# Altium footprint library CAPC450X320X135L60N.PcbLib: 1 footprints
Each footprint in its own frame and in the unit in brackets; x right, y up, seen from the top. Pads: shape width x height; smd on the part's side, far side on the other; paste and mask are expansions set on the pad; w line width, h text height; cw(c..) or ccw(c..) is an arc to the next point about the centre after c.
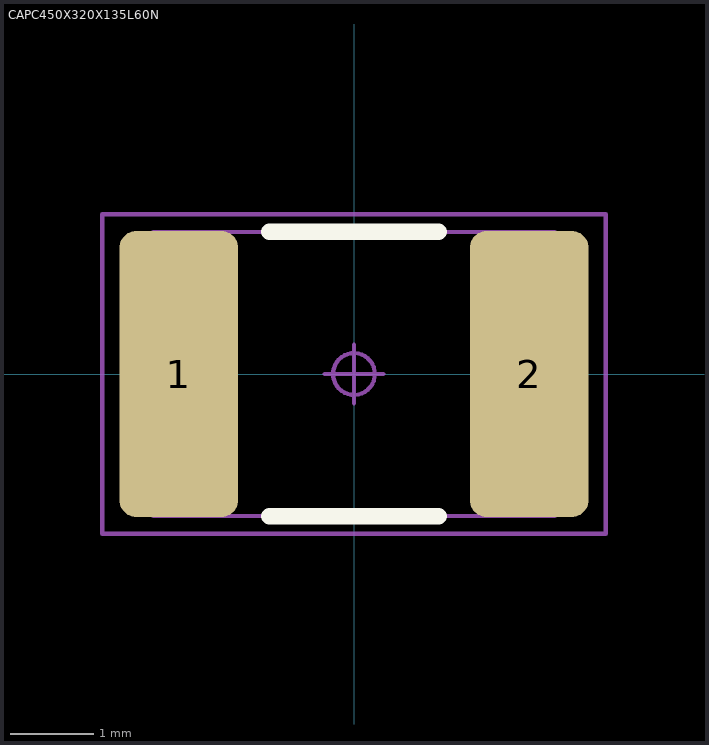
[diagram p0: the footprint, top view; thin cyan lines are the x and y axes]

## CAPC450X320X135L60N [mm] "Capacitor, Chip; 4.50 mm L X 3.20 mm W X 1.35 mm H body"
height 1.35
pads (2):
  rrect28% 1.42x3.42 smd mask+0.05: 1(-2.095,0) 2(2.095,0)
Top Overlay:
  lines w0.2: -1.01,-1.7 1.01,-1.7 ; -1.01,1.7 1.01,1.7
Mechanical 11:
  lines w0.05: -2.4,-1.7 -2.4,1.7 2.4,1.7 2.4,-1.7 -2.4,-1.7
Mechanical 15:
  circle w0.05: c0,0 r0.25
  lines w0.05: -0.35,0 0.35,0 ; 0,-0.35 0,0.35 ; -3.01,-1.91 -3.01,1.91 3.01,1.91 3.01,-1.91 -3.01,-1.91
3D body "CAPC450X320X135L60.STEP": height 1.35, standoff 0, extent -2.4,-1.7 2.4,1.7